# Altium schematic symbol library Raspberry.SchLib: 1 symbol
Pins are listed as number, name and electrical type; pins without a type are passive.

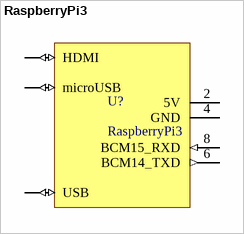
[diagram p0: symbol RaspberryPi3]

## RaspberryPi3
designator U?
pins: 2 5V (power), 4 GND (power), 6 BCM14_TXD (out), 8 BCM15_RXD (in), ?1 HDMI (io), ?2 microUSB (io), ?3 USB (io)